# Altium footprint library TE_CONN_5-1634556-0.PcbLib: 1 footprints
Each footprint in its own frame and in the unit in brackets; x right, y up, seen from the top. Pads: shape width x height; smd on the part's side, far side on the other; paste and mask are expansions set on the pad; w line width, h text height; cw(c..) or ccw(c..) is an arc to the next point about the centre after c.
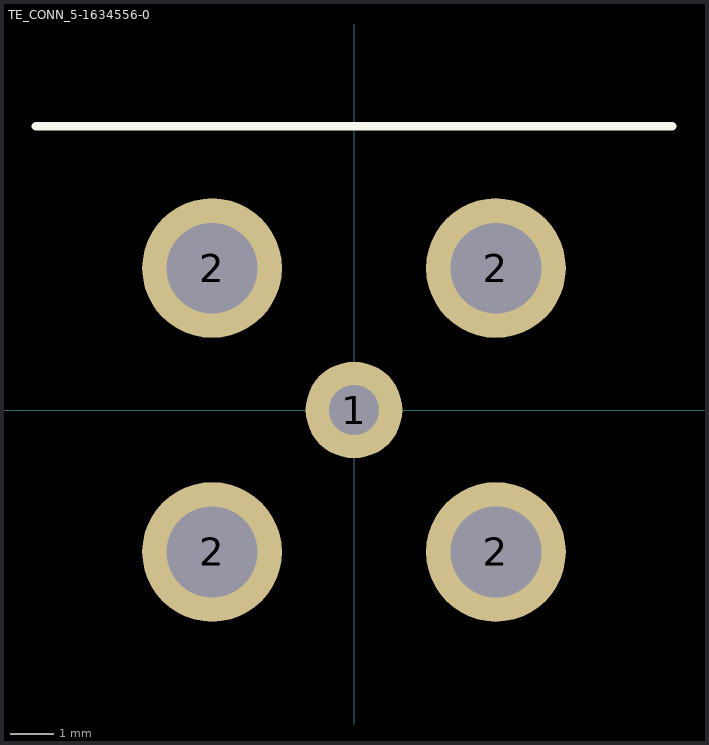
[diagram p0: the footprint, top view; thin cyan lines are the x and y axes]

## TE_CONN_5-1634556-0 [mm] "TE Connectivity BNC Jack"
pads (5):
  round 2.25 hole 1.17: 1(0,0)
  round 3.25 hole 2.11: 2(-3.3,-3.3) 2(-3.3,3.3) 2(3.3,-3.3) 2(3.3,3.3)
Top Overlay:
  lines w0.2: -7.4,6.6 7.4,6.6
3D body "TE_CONN_5-1634556-0.stp": height 11.66, standoff -4.34, extent -7.4,-4.98 7.4,22.85